# Altium footprint library MyLib.PCBLIB: 64 footprints (part 1 of 4)
Each footprint in its own frame and in the unit in brackets; x right, y up, seen from the top. Pads: shape width x height; smd on the part's side, far side on the other; paste and mask are expansions set on the pad; w line width, h text height; cw(c..) or ccw(c..) is an arc to the next point about the centre after c.
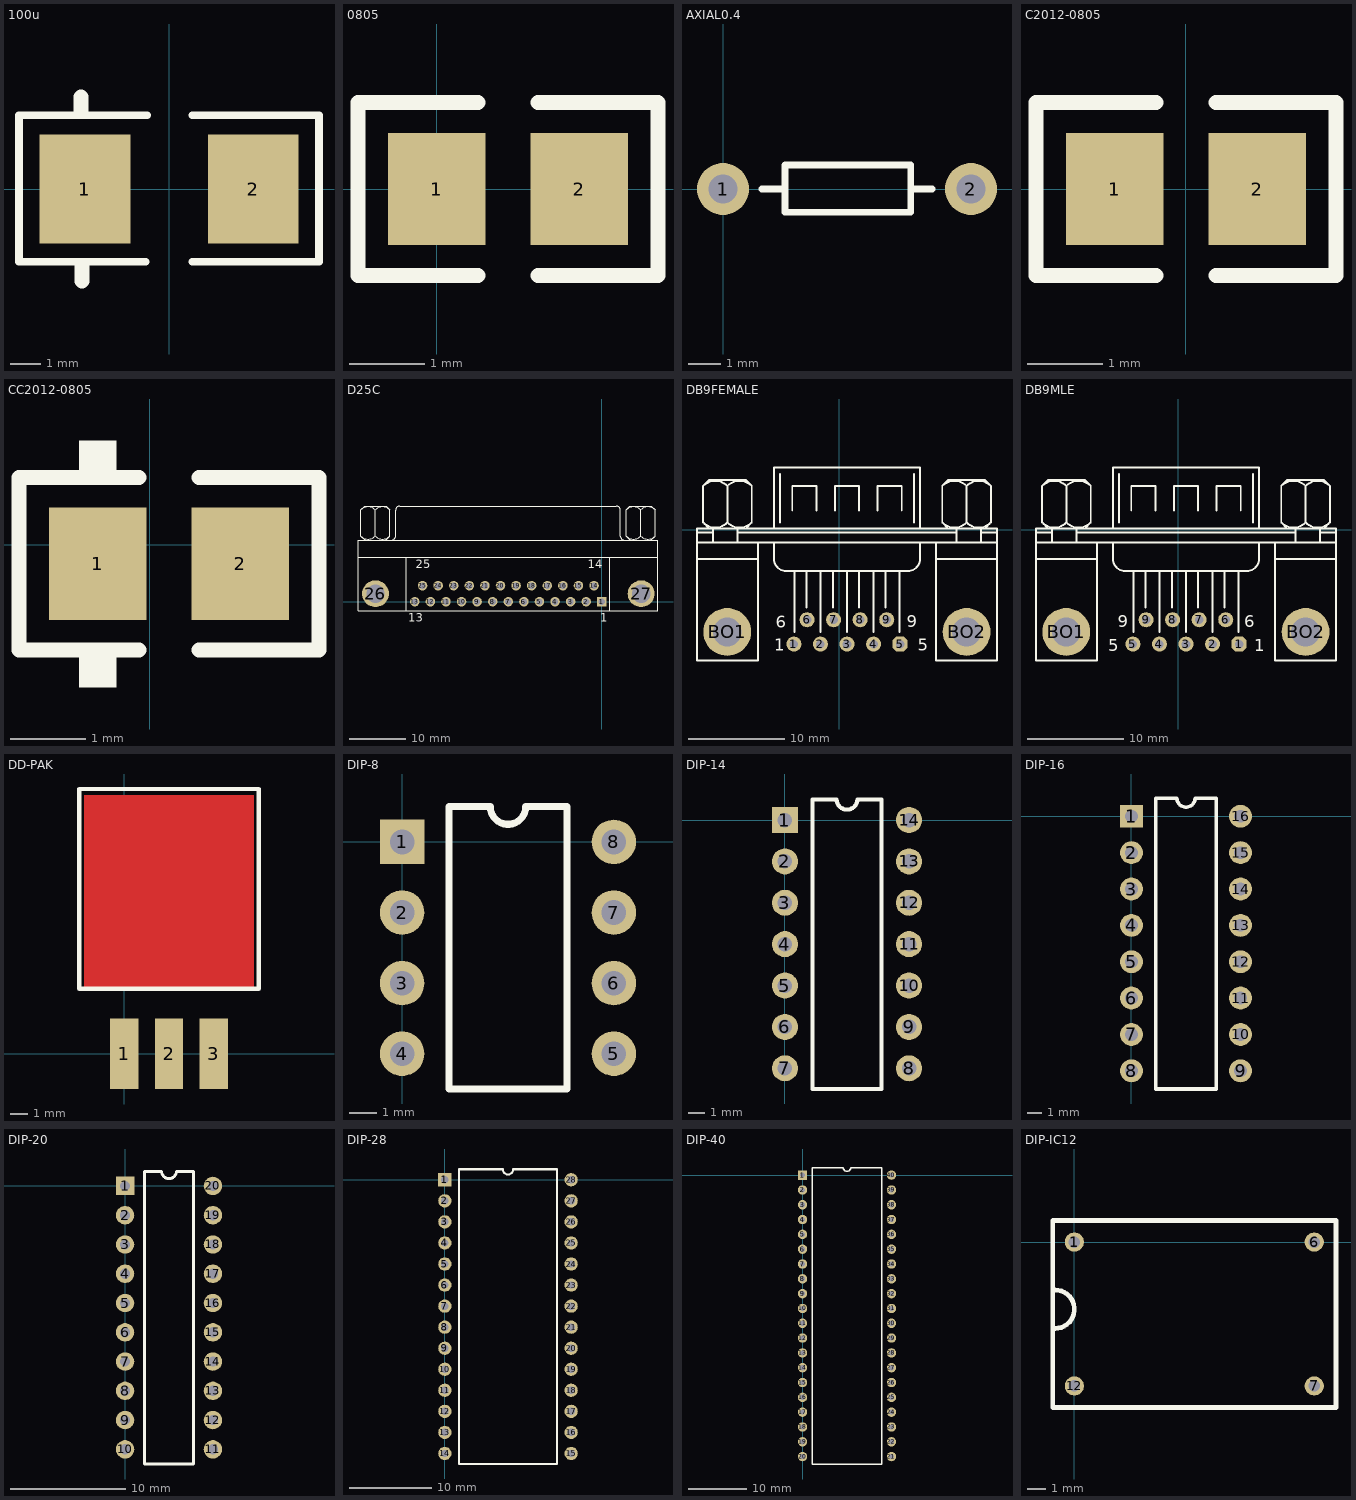
[diagram p0: the footprints below, top view; thin cyan lines are the x and y axes]

## 100u [mm]
pads (2):
  rect 3x3.6 smd: 1(-2.794,0) 2(2.775,0)
Top Overlay:
  lines w0.254: -0.787,-2.413 -4.978,-2.413 -4.978,2.438 -0.737,2.438 ; 0.762,-2.413 4.953,-2.413 ; 0.762,2.438 4.928,2.438 ; 4.953,-2.388 4.953,2.438
  lines w0.5: -2.921,2.565 -2.921,3.048 ; -2.896,-3.048 -2.896,-2.54

## 0805 [mm]
pads (2):
  rect 1.3x1.5 smd: 1(0,0) 2(1.9,0)
Top Overlay:
  lines w0.2: 0.55,-1.15 -1.05,-1.15 -1.05,1.15 0.55,1.15 ; 1.35,-1.15 2.95,-1.15 2.95,1.15 1.35,1.15

## AXIAL0.4 [mil]
pads (2):
  round 63 hole 35: 1(0,0) 2(300,0)
Top Overlay:
  lines w8: 47,0 75,0 ; 227,0 253,0 ; 75,-28 227,-28 227,29 75,29 75,-28

## C2012-0805 [mm]
pads (2):
  rect 1.3x1.5 smd: 1(-0.95,0) 2(0.95,0)
Top Overlay:
  lines w0.2: -0.4,-1.15 -2,-1.15 -2,1.15 -0.4,1.15 ; 0.4,-1.15 2,-1.15 2,1.15 0.4,1.15

## CC2012-0805 [mm]
pads (2):
  rect 1.3x1.5 smd: 1(-0.696,-0.254) 2(1.204,-0.254)
Top Overlay:
  rectangle: -0.946,0.986 -0.446,1.386
  rectangle: -0.946,-1.904 -0.446,-1.504
  lines w0.2: -0.146,-1.404 -1.746,-1.404 -1.746,0.896 -0.146,0.896 ; 0.654,-1.404 2.254,-1.404 2.254,0.896 0.654,0.896

## D25C [mm]
pads (27):
  rect 1.69x1.69 hole 1.09: 1(0,0)
  round 1.69 hole 1.09: 2(-2.761,0) 3(-5.522,0) 4(-8.283,0) 5(-11.044,0) 6(-13.805,0) 7(-16.566,0) 8(-19.327,0) 9(-22.088,0) 10(-24.849,0) 11(-27.61,0) 12(-30.371,0) 13(-33.132,0) 14(-1.381,2.84) 15(-4.142,2.84) 16(-6.903,2.84) 17(-9.664,2.84) 18(-12.424,2.84) 19(-15.185,2.84) 20(-17.946,2.84) 21(-20.707,2.84) 22(-23.469,2.84) 23(-26.23,2.84) 24(-28.991,2.84) 25(-31.752,2.84)
  round 4.76 hole 3.26: 26(-40.092,1.42) 27(6.96,1.42)
Top Overlay:
  lines w0.2: -43.17,7.92 9.93,7.92 ; -42.658,16.27 -42.658,11.619 -42.023,10.984 ; -42.658,16.285 -42.023,16.92 -38.213,16.92 -37.578,16.285 ; -40.118,11.619 -40.118,16.27 ; -38.213,10.984 -37.578,11.619 -37.578,16.27 ; -37.578,15.006 -37.578,15.218 ; -37.215,10.925 ccw(c-37.215,11.62) -36.52,11.62 -36.52,16.22 ; -36.515,16.225 cw(c-35.82,16.225) -35.82,16.92 2.58,16.92 cw(c2.58,16.225) 3.275,16.225 ; -34.62,-1.58 -34.62,7.92 ; 1.38,-1.58 1.38,7.92 ; 3.28,16.22 3.28,11.62 ccw(c3.975,11.62) 3.975,10.925 ; 4.342,16.27 4.342,11.619 4.977,10.984 ; 4.342,16.285 4.977,16.92 8.787,16.92 9.422,16.285 ; 6.882,11.619 6.882,16.27 ; 8.787,10.984 9.422,11.619 9.422,16.27 ; 9.422,15.006 9.422,15.218 ; -43.17,-1.58 9.93,-1.58 9.93,10.92 -43.17,10.92 -43.17,-1.58
  lines w0.203: -42.66,11.617 ccw(c-41.388,12.889) -40.116,11.617 ; -42.658,16.27 cw(c-41.386,14.998) -40.113,16.27 ; -40.122,16.27 cw(c-38.85,14.998) -37.578,16.27 ; -40.12,11.617 ccw(c-38.848,12.889) -37.576,11.617 ; 4.34,11.617 ccw(c5.612,12.889) 6.884,11.617 ; 4.342,16.27 cw(c5.614,14.998) 6.887,16.27 ; 6.878,16.27 cw(c8.15,14.998) 9.422,16.27 ; 6.88,11.617 ccw(c8.152,12.889) 9.424,11.617
  text "1" at -0.25,-3.555 h1.5
  text "13" at -34.257,-3.555 h1.5
  text "14" at -2.506,5.945 h1.5
  text "25" at -33.002,5.945 h1.5

## DB9FEMALE [mil]
pads (11):
  round 62 hole 35: 1(-186.67,-470) 2(-77.5,-470) 3(31.67,-470) 4(140.83,-470) 6(-132.5,-370) 7(-23.33,-370) 8(85.83,-370) 9(195,-370)
  oct 62x62 hole 35: 5(250,-470)
  round 196.67 hole 118.33: BO1(-460.83,-420) BO2(523.33,-420)
Top Overlay:
  lines w8: -585,-120 -335,-120 ; -585,-53.33 648.33,-53.33 ; -585,-11.67 -518.33,-11.67 ; -560.09,29.91 ccw(c-510,80) -459.91,29.91 ; -560.09,180.09 cw(c-510,130) -459.91,180.09 ; -535,5 -560,30 -560,180 -535,205 -385,205 -360,180 -360,30 -385,5 ; -518.33,-53.33 -518.33,5 ; -460.09,29.91 ccw(c-410,80) -359.91,29.91 ; -460.09,180.09 cw(c-410,130) -359.91,180.09 ; -460,30 -460,180 ; -418.33,-53.33 -418.33,5 ; -418.33,-11.67 481.67,-11.67 ; -335,-53.33 -335,-536.67 -585,-536.67 -585,5 648.33,5 648.33,-536.67 398.33,-536.67 398.33,-53.33 ; -268.33,-53.33 -268.33,-120 ccw(c-218.33,-120) -218.33,-170 281.67,-170 ccw(c281.67,-120) 331.67,-120 331.67,-53.33 ; -268.33,5 -268.33,255 331.67,255 331.67,5 ; -243.33,30 -243.33,230 ; -193.33,80 -193.33,180 -93.33,180 -93.33,80 ; -185,-420 -185,-170 ; -135,-320 -135,-170 ; -76.67,-420 -76.67,-170 ; -26.67,-320 -26.67,-170 ; -18.33,80 -18.33,180 81.67,180 81.67,80 ; 31.67,-420 31.67,-170 ; 81.67,-320 81.67,-170 ; 140,-420 140,-170 ; 156.67,80 156.67,180 256.67,180 256.67,80 ; 190,-320 190,-170 ; 248.33,-420 248.33,-170 ; 306.67,30 306.67,230 ; 398.33,-120 648.33,-120 ; 423.25,29.91 ccw(c473.33,80) 523.42,29.91 ; 423.25,180.09 cw(c473.33,130) 523.42,180.09 ; 448.33,5 423.33,30 423.33,180 448.33,205 598.33,205 623.33,180 623.33,30 598.33,5 ; 481.67,-53.33 481.67,5 ; 523.25,29.91 ccw(c573.33,80) 623.42,29.91 ; 523.25,180.09 cw(c573.33,130) 623.42,180.09 ; 523.33,30 523.33,180 ; 581.67,-53.33 581.67,5 ; 581.67,-11.67 648.33,-11.67
  text "1" at -268,-497 h50
  text "6" at -261,-402 h50
  text "5" at 322,-497 h50
  text "9" at 278,-401 h50

## DB9MLE [mil]
pads (11):
  oct 62x62 hole 35: 1(250,-470)
  round 62 hole 35: 2(140.83,-470) 3(31.67,-470) 4(-77.5,-470) 5(-186.67,-470) 6(195,-370) 7(85.83,-370) 8(-23.33,-370) 9(-132.5,-370)
  round 196.67 hole 118.33: BO1(-460.83,-420) BO2(523.33,-420)
Top Overlay:
  lines w8: -585,-120 -335,-120 ; -585,-53.33 648.33,-53.33 ; -585,-11.67 -518.33,-11.67 ; -560.09,29.91 ccw(c-510,80) -459.91,29.91 ; -560.09,180.09 cw(c-510,130) -459.91,180.09 ; -535,5 -560,30 -560,180 -535,205 -385,205 -360,180 -360,30 -385,5 ; -518.33,-53.33 -518.33,5 ; -460.09,29.91 ccw(c-410,80) -359.91,29.91 ; -460.09,180.09 cw(c-410,130) -359.91,180.09 ; -460,30 -460,180 ; -418.33,-53.33 -418.33,5 ; -418.33,-11.67 481.67,-11.67 ; -335,-53.33 -335,-536.67 -585,-536.67 -585,5 648.33,5 648.33,-536.67 398.33,-536.67 398.33,-53.33 ; -268.33,-53.33 -268.33,-120 ccw(c-218.33,-120) -218.33,-170 281.67,-170 ccw(c281.67,-120) 331.67,-120 331.67,-53.33 ; -268.33,5 -268.33,255 331.67,255 331.67,5 ; -243.33,30 -243.33,230 ; -193.33,80 -193.33,180 -93.33,180 -93.33,80 ; -185,-420 -185,-170 ; -135,-320 -135,-170 ; -76.67,-420 -76.67,-170 ; -26.67,-320 -26.67,-170 ; -18.33,80 -18.33,180 81.67,180 81.67,80 ; 31.67,-420 31.67,-170 ; 81.67,-320 81.67,-170 ; 140,-420 140,-170 ; 156.67,80 156.67,180 256.67,180 256.67,80 ; 190,-320 190,-170 ; 248.33,-420 248.33,-170 ; 306.67,30 306.67,230 ; 398.33,-120 648.33,-120 ; 423.25,29.91 ccw(c473.33,80) 523.42,29.91 ; 423.25,180.09 cw(c473.33,130) 523.42,180.09 ; 448.33,5 423.33,30 423.33,180 448.33,205 598.33,205 623.33,180 623.33,30 598.33,5 ; 481.67,-53.33 481.67,5 ; 523.25,29.91 ccw(c573.33,80) 623.42,29.91 ; 523.25,180.09 cw(c573.33,130) 623.42,180.09 ; 523.33,30 523.33,180 ; 581.67,-53.33 581.67,5 ; 581.67,-11.67 648.33,-11.67
  text "1" at 311.67,-500 h50
  text "6" at 271.67,-400 h50
  text "5" at -288.33,-500 h50
  text "9" at -248.33,-400 h50

## DD-PAK [mm]
pads (3):
  rect 1.6x4 smd: 1(0,0) 2(2.54,0) 3(5.08,0)
Top Layer:
  rectangle: -2.286,3.639 7.366,14.681
Top Overlay:
  lines w0.254: -2.54,3.686 -2.54,15.011 7.62,15.011 7.62,3.686 -2.54,3.686

## DIP-8 [mil]
pads (8):
  rect 63x63 hole 35: 1(0,0)
  round 63 hole 35: 2(0,-100) 3(0,-200) 4(0,-300) 5(300,-300) 6(300,-200) 7(300,-100) 8(300,0)
Top Overlay:
  lines w10: 66.5,-350 66.5,50 125,50 ccw(c150,50) 175,50 233.5,50 233.5,-350 66.5,-350

## DIP-14 [mil]
pads (14):
  rect 63x63 hole 35: 1(0,0)
  round 63 hole 35: 2(0,-100) 3(0,-200) 4(0,-300) 5(0,-400) 6(0,-500) 7(0,-600) 8(300,-600) 9(300,-500) 10(300,-400) 11(300,-300) 12(300,-200) 13(300,-100) 14(300,0)
Top Overlay:
  lines w10: 66.5,-650 66.5,50 125,50 ccw(c150,50) 175,50 233.5,50 233.5,-650 66.5,-650

## DIP-16 [mil]
pads (16):
  rect 63x63 hole 35: 1(0,0)
  round 63 hole 35: 2(0,-100) 3(0,-200) 4(0,-300) 5(0,-400) 6(0,-500) 7(0,-600) 8(0,-700) 9(300,-700) 10(300,-600) 11(300,-500) 12(300,-400) 13(300,-300) 14(300,-200) 15(300,-100) 16(300,0)
Top Overlay:
  lines w10: 66.5,-750 66.5,50 125,50 ccw(c150,50) 175,50 233.5,50 233.5,-750 66.5,-750

## DIP-20 [mil]
pads (20):
  rect 63x63 hole 35: 1(0,0)
  round 63 hole 35: 2(0,-100) 3(0,-200) 4(0,-300) 5(0,-400) 6(0,-500) 7(0,-600) 8(0,-700) 9(0,-800) 10(0,-900) 11(300,-900) 12(300,-800) 13(300,-700) 14(300,-600) 15(300,-500) 16(300,-400) 17(300,-300) 18(300,-200) 19(300,-100) 20(300,0)
Top Overlay:
  lines w10: 66.5,-950 66.5,50 125,50 ccw(c150,50) 175,50 233.5,50 233.5,-950 66.5,-950

## DIP-28 [mil]
pads (28):
  rect 63x63 hole 35: 1(0,0)
  round 63 hole 35: 2(0,-100) 3(0,-200) 4(0,-300) 5(0,-400) 6(0,-500) 7(0,-600) 8(0,-700) 9(0,-800) 10(0,-900) 11(0,-1000) 12(0,-1100) 13(0,-1200) 14(0,-1300) 15(600,-1300) 16(600,-1200) 17(600,-1100) 18(600,-1000) 19(600,-900) 20(600,-800) 21(600,-700) 22(600,-600) 23(600,-500) 24(600,-400) 25(600,-300) 26(600,-200) 27(600,-100) 28(600,0)
Top Overlay:
  lines w10: 66.5,-1350 66.5,50 275,50 ccw(c300,50) 325,50 533.5,50 533.5,-1350 66.5,-1350

## DIP-40 [mil]
pads (40):
  rect 63x63 hole 35: 1(0,0)
  round 63 hole 35: 2(0,-100) 3(0,-200) 4(0,-300) 5(0,-400) 6(0,-500) 7(0,-600) 8(0,-700) 9(0,-800) 10(0,-900) 11(0,-1000) 12(0,-1100) 13(0,-1200) 14(0,-1300) 15(0,-1400) 16(0,-1500) 17(0,-1600) 18(0,-1700) 19(0,-1800) 20(0,-1900) 21(600,-1900) 22(600,-1800) 23(600,-1700) 24(600,-1600) 25(600,-1500) 26(600,-1400) 27(600,-1300) 28(600,-1200) 29(600,-1100) 30(600,-1000) 31(600,-900) 32(600,-800) 33(600,-700) 34(600,-600) 35(600,-500) 36(600,-400) 37(600,-300) 38(600,-200) 39(600,-100) 40(600,0)
Top Overlay:
  lines w10: 66.5,-1950 533.5,-1950 533.5,50 325,50 cw(c300,50) 275,50 66.5,50 66.5,-1950

## DIP-IC12 [mil]
pads (4):
  round 40 hole 24: 1(0,0) 6(500,0) 7(500,-300) 12(0,-300)
Top Overlay:
  lines w10: -40,-180 ccw(c-40,-140) -40,-100 ; 545.28,-344.88 -45.28,-344.88 -45.28,44.88 545.28,44.88 545.35,-344.88